# EAGLE library part PIC18F47K42-I_PT (library PIC18F47K42-I_PT)
MICROCHIP - PIC18F47K42-I/PT - MCU, 8BIT, 64MHZ, TQFP-44 Source: Datasheet <https://www.microchip.com/wwwproducts/en/PIC18F47K42#additional-features>
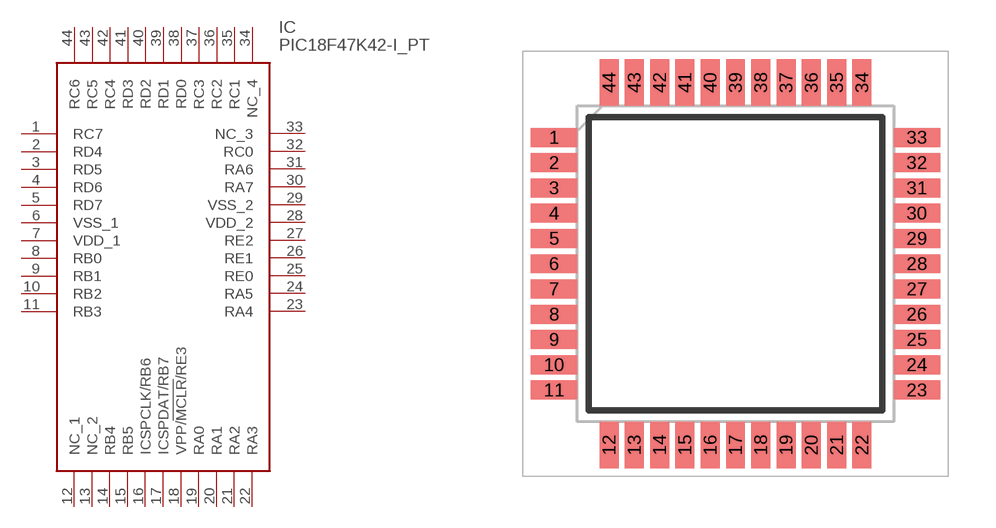
[diagram p0: symbol with the pads of QFP80P1200X1200X120-44N; footprint QFP80P1200X1200X120-44N]

Designator prefix IC

## PIC18F47K42-I_PT (Description: MICROCHIP - PIC18F47K42-I/PT - MCU, 8BIT, 64MHZ, TQFP-44; Height: 1.2mm; Manufacturer_Name: Microchip; Manufacturer_Part_Number: PIC18F47K42-I/PT; Mouser_Part_Number: 579-PIC18F47K42-I/PT; Mouser_Price-Stock: https://www.mouser.com/Search/Refine.aspx?Keyword=579-PIC18F47K42-I%2FPT)  [QFP80P1200X1200X120-44N]
1  RC7
2  RD4
3  RD5
4  RD6
5  RD7
6  VSS_1
7  VDD_1
8  RB0
9  RB1
10  RB2
11  RB3
12  NC_1
13  NC_2
14  RB4
15  RB5
16  ICSPCLK/RB6
17  ICSPDAT/RB7
18  VPP/!MCLR!/RE3
19  RA0
20  RA1
21  RA2
22  RA3
23  RA4
24  RA5
25  RE0
26  RE1
27  RE2
28  VDD_2
29  VSS_2
30  RA7
31  RA6
32  RC0
33  NC_3
34  NC_4
35  RC1
36  RC2
37  RC3
38  RD0
39  RD1
40  RD2
41  RD3
42  RC4
43  RC5
44  RC6

## Footprint QFP80P1200X1200X120-44N (pad centres in mm)
(PT)44-Lead(TQFP)
smd 1.475 x 0.6: 1 -5.738,4; 2 -5.738,3.2; 3 -5.738,2.4; 4 -5.738,1.6; 5 -5.738,0.8; 6 -5.738,0; 7 -5.738,-0.8; 8 -5.738,-1.6; 9 -5.738,-2.4; 10 -5.738,-3.2; 11 -5.738,-4; 23 5.738,-4; 24 5.738,-3.2; 25 5.738,-2.4; 26 5.738,-1.6; 27 5.738,-0.8; 28 5.738,0; 29 5.738,0.8; 30 5.738,1.6; 31 5.738,2.4; 32 5.738,3.2; 33 5.738,4
smd 0.6 x 1.475: 12 -4,-5.738; 13 -3.2,-5.738; 14 -2.4,-5.738; 15 -1.6,-5.738; 16 -0.8,-5.738; 17 0,-5.738; 18 0.8,-5.738; 19 1.6,-5.738; 20 2.4,-5.738; 21 3.2,-5.738; 22 4,-5.738; 34 4,5.738; 35 3.2,5.738; 36 2.4,5.738; 37 1.6,5.738; 38 0.8,5.738; 39 0,5.738; 40 -0.8,5.738; 41 -1.6,5.738; 42 -2.4,5.738; 43 -3.2,5.738; 44 -4,5.738